# Altium schematic symbol library Schlib1.SchLib: 14 symbols
Pins are listed as number, name and electrical type; pins without a type are passive.

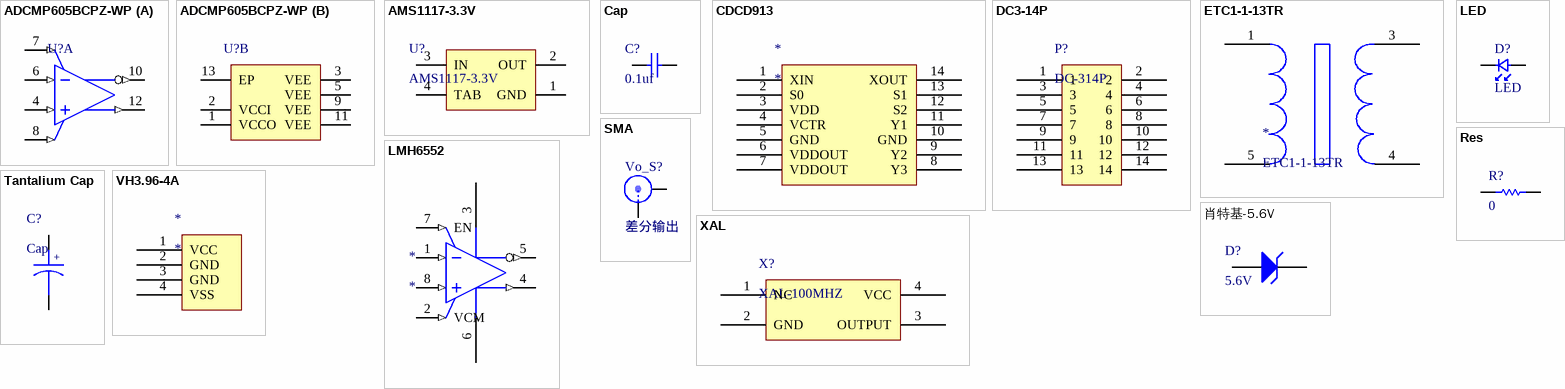
[diagram p0: symbols ADCMP605BCPZ-WP to 肖特基-5.6V]

## ADCMP605BCPZ-WP
designator U?
Rail-to-Rail, Very Fast, Single-Supply LVDS Comparator, 2.5 to 5.5 V, 1.5 ns Delay, Industrial, 12-pin QFN (CP-12-1), Tray; Manufacturer: Analog Devices; PartNumber: ADCMP605BCPZ-WP; Input Range (V): -0.2 to VCC+0.2; Total Power (mW): 42mW; DatasheetVersion: Rev. A; PackageReference: CP-12-1; PackageDescription: 12-Pin Lead Frame Chip Scale Package, Body 3 x 3 mm, Pitch 0.5 mm; Supplier 1: Digi-Key; Supplier Part Number 1: ADCMP605BCPZ-WP-ND; Supplier 2: Farnell; Supplier Part Number 2: 2376811; Supplier 3: Mouser; Supplier Part Number 3: 584-ADCMP605BCPZ-WP; Packing: Tray; Voltage Supply (V): 2.5 to 5.5; Mounting Technology: Surface Mount; Code_JEDEC: MO-220-VEED-1; ComponentLink1Description: Manufacturer URL; ComponentLink1URL: http://www.analog.com/en/index.html; ComponentLink2Description: Datasheet; ComponentLink2URL: http://www.analog.com/static/imported-files/data_sheets/ADCMP604_605.pdf; ComponentLink3Description: Package Specification; ComponentLink3URL: http://www.analog.com/static/imported-files/packages/CP_12_1.pdf; ComponentLink4Description: URL Link1; ComponentLink4URL: Product URL:http://www.analog.com/en/special-linear-functions/comparators/adcmp605/products/product.html
footprint ADI-CP-12-1_N (QFN, 12-Leads, Body 3x3mm, Pitch 0.5mm, Thermal Pad 1.3x1.3mm, IPC Medium Density)
footprint ADI-CP-12-1_L (QFN, 12-Leads, Body 3x3mm, Pitch 0.5mm, Thermal Pad 1.3x1.3mm, IPC High Density)
footprint ADI-CP-12-1_M (QFN, 12-Leads, Body 3x3mm, Pitch 0.5mm, Thermal Pad 1.3x1.3mm, IPC Low Density)
part A pins: 4 VP (in) "Noninverting Analog Input.", 6 VN (in) "Inverting Analog Input.", 7 SDN (in) "Shutdown. Drive this pin low to shut down the device.", 8 LE/HYS (in) "Latch/Hysteresis Control. Bias with resistor or current for hysteresis; drive low to latch.", 10 ~{Q} (out) "Inverting Output. Q\ is at Logic low if the analog voltage at the noninverting input, VP, is greater than the analog voltage at the inverting input, VN, if the comparator is in compare mode.", 12 Q (out) "Noninverting Output. Q is at Logic high if the analog voltage at the noninverting input, VP, is greater than the analog voltage at the inverting input, VN, if the comparator is in compare mode."
part B pins: 1 VCCO (power) "Output Section Supply.", 2 VCCI (power) "Input Section Supply.", 3 VEE (power) "Negative Supply Voltages.", 5 VEE (power) "Negative Supply Voltages.", 9 VEE (power) "Negative Supply Voltages.", 11 VEE (power) "Negative Supply Voltages.", 13 EP "The metallic back surface of the package is electrically connected to VEE. It can be left floating because Pin 3, Pin 5, Pin 9, and Pin 11 provide adequate electrical connection. It can also be soldered to the application (See Datasheet)"

## AMS1117-3.3V
designator U?
footprint SOT-223
pins: 1 GND (power), 2 OUT (power), 3 IN (power), 4 TAB (power)

## Cap
designator C?, comment 0.1uf
footprint 0805
footprint 0603C
pins: 1, 2

## CDCD913
designator *
footprint RU-14_L (TSOP, 14-Leads, Body 5x4.4mm, Pitch 0.65mm, IPC High Density)
footprint RU-14_M (TSOP, 14-Leads, Body 5x4.4mm, Pitch 0.65mm, IPC Low Density)
footprint RU-14_N (TSOP, 14-Leads, Body 5x4.4mm, Pitch 0.65mm, IPC Medium Density)
pins: 1 XIN, 2 S0, 3 VDD, 4 VCTR, 5 GND, 6 VDDOUT, 7 VDDOUT, 8 Y3, 9 Y2, 10 GND, 11 Y1, 12 S2, 13 S1, 14 XOUT

## DC3-14P
designator P?, comment DC-314P
footprint DC3-14P
pins: 1, 2, 3, 4, 5, 6, 7, 8, 9, 10, 11, 12, 13, 14

## ETC1-1-13TR
designator *
footprint SM-22
pins: 1, 3, 4, 5

## LED
designator D?
footprint 0805_s
pins: 1, 2

## LMH6552
designator *
footprint TI-D8_L (SOIC, 8-Leads, Body 4.9x3.9mm, Pitch 1.27mm, IPC High Density)
footprint TI-D8_M (SOIC, 8-Leads, Body 4.9x3.9mm, Pitch 1.27mm, IPC Low Density)
footprint TI-D8_N (SOIC, 8-Leads, Body 4.9x3.9mm, Pitch 1.27mm, IPC Medium Density)
pins: 1 VN (in) "Inverting Analog Input.", 2 VCM (in) "Latch/Hysteresis Control. Bias with resistor or current for hysteresis; drive low to latch.", 3 VCC, 4 Q (out) "Noninverting Output. Q is at Logic high if the analog voltage at the noninverting input, VP, is greater than the analog voltage at the inverting input, VN, if the comparator is in compare mode.", 5 ~{Q} (out) "Inverting Output. Q\ is at Logic low if the analog voltage at the noninverting input, VP, is greater than the analog voltage at the inverting input, VN, if the comparator is in compare mode.", 6 VDD, 7 EN (in) "Shutdown. Drive this pin low to shut down the device.", 8 VP (in) "Noninverting Analog Input."

## Res
designator R?, comment 0
footprint 0805
footprint 0603R
pins: 1, 2

## SMA
designator Vo_S?, comment 差分输出
footprint SMA-LYING
footprint SMA-STAND
pins: 0, 1

## Tantalium Cap
designator C?, comment Cap
footprint 7343-31 TYPE D
pins: 1, 2
text: +

## VH3.96-4A
designator *
footprint VH3.96-4P
footprint VH3.96-4P
pins: 1 VCC, 2 GND, 3 GND, 4 VSS

## XAL
designator X?, comment XAL-100MHZ
footprint SMD4_7050
pins: 1 NC, 2 GND, 3 OUTPUT, 4 VCC

## 肖特基-5.6V
designator D?, comment 5.6V
footprint SMA/DO-214AC
pins: 1 A, 2 K